# Altium footprint library TI-LDO.PcbLib: 4 footprints
Each footprint in its own frame and in the unit in brackets; x right, y up, seen from the top. Pads: shape width x height; smd on the part's side, far side on the other; paste and mask are expansions set on the pad; w line width, h text height; cw(c..) or ccw(c..) is an arc to the next point about the centre after c.
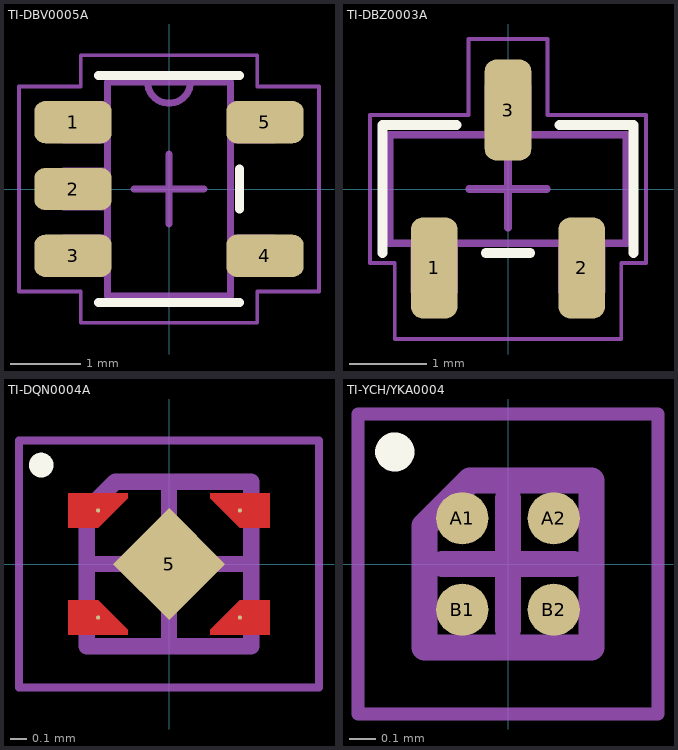
[diagram p0: the footprints below, top view; thin cyan lines are the x and y axes]

## TI-DBV0005A [mm] "SOT-23 - 1.45 mm max height"
height 1.45
pads (5):
  rrect50% 1.1x0.6 smd mask+0.07: 1(-1.365,0.95) 2(-1.365,0) 3(-1.365,-0.95) 4(1.365,-0.95) 5(1.365,0.95)
Top Overlay:
  lines w0.127: -1.003,-1.614 1.003,-1.614 ; -1.003,1.614 1.003,1.614 ; 1.003,-0.287 1.003,0.287
Top Assembly:
  lines w0.1: -0.305,1.524 ccw(c0,1.524) 0.305,1.524 ; -1.499,-1.204 -1.499,-0.696 -0.876,-0.696 -0.876,-1.204 -1.499,-1.204 ; -1.499,-0.254 -1.499,0.254 -0.876,0.254 -0.876,-0.254 -1.499,-0.254 ; -1.499,0.696 -1.499,1.204 -0.876,1.204 -0.876,0.696 -1.499,0.696 ; -0.876,-1.524 -0.876,1.524 0.876,1.524 0.876,-1.524 -0.876,-1.524 ; 0.876,-1.204 0.876,-0.696 1.499,-0.696 1.499,-1.204 0.876,-1.204 ; 0.876,0.696 0.876,1.204 1.499,1.204 1.499,0.696 0.876,0.696
  text "'.Designator'" at -0.113,1.209 h0.5
Top Courtyard:
  lines w0.05: -2.134,-1.458 -1.257,-1.458 -1.257,-1.905 1.257,-1.905 1.257,-1.458 2.134,-1.458 2.134,1.458 1.257,1.458 1.257,1.905 -1.257,1.905 -1.257,1.458 -2.134,1.458 -2.134,-1.458
  lines w0.1: -0.5,0 0.5,0 ; 0,-0.5 0,0.5
3D body "SOT23_DBV_TEX.step": height 1.45, standoff 0, extent -1.499,-1.524 1.499,1.524

## TI-DBZ0003A [mm] "SOT-23 - 1.12 mm max height"
height 1.12
pads (3):
  rrect50% 0.6x1.3 smd paste+0 mask+0.07: 1(-0.95,-1.016) 2(0.95,-1.016) 3(0,1.016)
Top Overlay:
  lines w0.127: -1.613,-0.826 -1.613,0.826 -0.663,0.826 ; -0.286,-0.826 0.286,-0.826 ; 0.663,0.826 1.613,0.826 1.613,-0.826
Top Assembly:
  lines w0.1: -1.524,-0.699 -1.524,0.699 1.524,0.699 1.524,-0.699 -1.524,-0.699 ; -1.204,-1.321 -0.696,-1.321 -0.696,-0.699 -1.204,-0.699 -1.204,-1.321 ; -0.254,0.699 0.254,0.699 0.254,1.321 -0.254,1.321 -0.254,0.699 ; 0.696,-1.321 1.204,-1.321 1.204,-0.699 0.696,-0.699 0.696,-1.321
  text "'.Designator'" at -1.448,-0.136 h0.6
Top Courtyard:
  lines w0.05: -1.778,-0.953 -1.458,-0.953 -1.458,-1.93 1.458,-1.93 1.458,-0.953 1.778,-0.953 1.778,0.953 0.508,0.953 0.508,1.93 -0.508,1.93 -0.508,0.953 -1.778,0.953 -1.778,-0.953
  lines w0.1: -0.5,0 0.5,0 ; 0,-0.5 0,0.5
3D body "SOT_8PDBZR_TEX.step": height 1.12, standoff 0, extent -1.524,-1.321 1.524,1.321

## TI-DQN0004A [mm] "X2SON - 0.4 mm max height"
height 0.4
pads (5):
  round 0.025 smd paste-2539.97 mask+0.05: 1(-0.43,0.325) 2(-0.43,-0.325) 3(0.43,-0.325) 4(0.43,0.325)
  rect 0.48x0.48 smd rot 45 paste-2539.97 mask+0.05: 5(0,0)
Top Layer:
  region: 0.25,0.4 0.25,0.43 0.61,0.43 0.61,0.22 0.43,0.22
  region: -0.25,0.4 -0.25,0.43 -0.61,0.43 -0.61,0.22 -0.43,0.22
  region: 0.25,-0.4 0.25,-0.43 0.61,-0.43 0.61,-0.22 0.43,-0.22
  region: -0.25,-0.4 -0.25,-0.43 -0.61,-0.43 -0.61,-0.22 -0.43,-0.22
Top Overlay:
  circle w0.1: c-0.775,0.6 r0.025
Top Paste:
  region: 0.25,0.4 0.25,0.43 0.65,0.43 0.65,0.22 0.43,0.22
  region: -0.318,0 0,-0.318 0.318,0 0,0.318
  region: -0.25,0.4 -0.25,0.43 -0.65,0.43 -0.65,0.22 -0.43,0.22
  region: 0.25,-0.4 0.25,-0.43 0.65,-0.43 0.65,-0.22 0.43,-0.22
  region: -0.25,-0.4 -0.25,-0.43 -0.65,-0.43 -0.65,-0.22 -0.43,-0.22
Top Solder:
  region: 0.339,0 0,-0.339 -0.339,0 0,0.339
  region: -0.25,-0.4 -0.25,-0.43 -0.61,-0.43 -0.61,-0.22 -0.43,-0.22
  region: 0.61,0.22 0.43,0.22 0.25,0.4 0.25,0.43 0.61,0.43
  region: 0.61,-0.43 0.25,-0.43 0.25,-0.4 0.43,-0.22 0.61,-0.22
  region: -0.25,0.4 -0.43,0.22 -0.61,0.22 -0.61,0.43 -0.25,0.43
Top Assembly:
  lines w0.1: -0.5,-0.5 0.5,-0.5 0.5,0.5 -0.325,0.5 -0.5,0.325 -0.5,-0.5
  text "'.Designator'" at -0.483,-0.045 h0.2
Top Courtyard:
  lines w0.05: -0.91,-0.75 -0.91,0.75 0.91,0.75 0.91,-0.75 -0.91,-0.75
  lines w0.1: -0.5,0 0.5,0 ; 0,-0.5 0,0.5
3D body "step_temp.STEP": height 0.4, standoff 0, extent -0.5,-0.5 0.5,0.5

## TI-YCH/YKA0004 [mm] "DSBGA - 0.4 mm max height"
height 0.4
pads (4):
  round 0.2 smd paste-2539.97 mask+0.032: A1(-0.175,0.175) A2(0.175,0.175) B1(-0.175,-0.175) B2(0.175,-0.175)
Top Overlay:
  circle w0.1: c-0.433,0.429 r0.025
Top Paste:
  region: -0.28,0.123 -0.28,0.228 -0.28,0.238 -0.272,0.257 -0.257,0.272 -0.238,0.28 -0.228,0.28 -0.122,0.28 -0.112,0.28 -0.093,0.272 -0.078,0.257 -0.07,0.238 -0.07,0.228 -0.07,0.123 -0.07,0.112 -0.078,0.093 -0.093,0.078 -0.112,0.07 -0.122,0.07 -0.228,0.07 -0.238,0.07 -0.257,0.078 -0.272,0.093 -0.28,0.112
  region: 0.07,0.123 0.07,0.228 0.07,0.238 0.078,0.257 0.093,0.272 0.112,0.28 0.122,0.28 0.228,0.28 0.238,0.28 0.257,0.272 0.272,0.257 0.28,0.238 0.28,0.228 0.28,0.123 0.28,0.112 0.272,0.093 0.257,0.078 0.238,0.07 0.228,0.07 0.122,0.07 0.112,0.07 0.093,0.078 0.078,0.093 0.07,0.112
  region: -0.28,-0.228 -0.28,-0.123 -0.28,-0.112 -0.272,-0.093 -0.257,-0.078 -0.238,-0.07 -0.228,-0.07 -0.122,-0.07 -0.112,-0.07 -0.093,-0.078 -0.078,-0.093 -0.07,-0.112 -0.07,-0.123 -0.07,-0.228 -0.07,-0.238 -0.078,-0.257 -0.093,-0.272 -0.112,-0.28 -0.122,-0.28 -0.228,-0.28 -0.238,-0.28 -0.257,-0.272 -0.272,-0.257 -0.28,-0.238
  region: 0.07,-0.228 0.07,-0.123 0.07,-0.112 0.078,-0.093 0.093,-0.078 0.112,-0.07 0.122,-0.07 0.228,-0.07 0.238,-0.07 0.257,-0.078 0.272,-0.093 0.28,-0.112 0.28,-0.123 0.28,-0.228 0.28,-0.238 0.272,-0.257 0.257,-0.272 0.238,-0.28 0.228,-0.28 0.122,-0.28 0.112,-0.28 0.093,-0.272 0.078,-0.257 0.07,-0.238
Top Assembly:
  lines w0.1: -0.32,-0.32 -0.32,0.145 -0.145,0.32 0.32,0.32 0.32,-0.32 -0.32,-0.32
  text "'.Designator'" at -0.242,-0.023 h0.1
Top Courtyard:
  lines w0.05: -0.574,-0.574 -0.574,0.574 0.574,0.574 0.574,-0.574 -0.574,-0.574
  lines w0.1: -0.25,0 0.25,0 ; 0,-0.25 0,0.25
3D body "DSBGA_3PYCHR_TEX.step": height 0.41, standoff 0, extent -0.32,-0.32 0.32,0.32